# EAGLE library part MCP601 (library Pauls_parts)
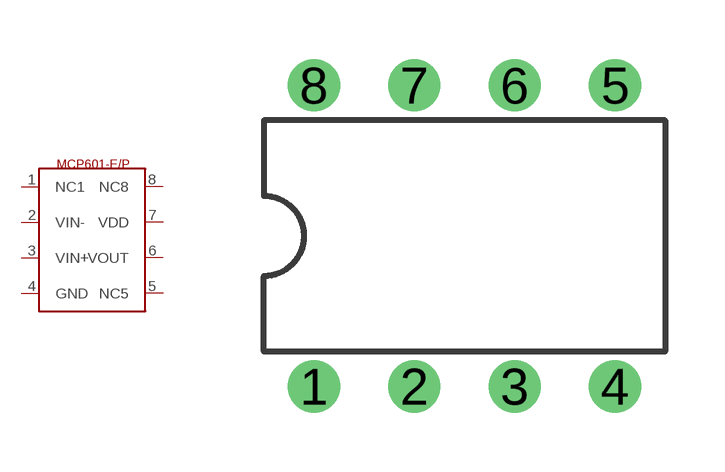
[diagram p1: symbol with the pads of PDIP8; footprint PDIP8]

Designator prefix -

## MCP601  [PDIP8]
1  NC1  nc
2  VIN-
3  VIN+
4  GND  pwr
5  NC5  nc
6  VOUT
7  VDD  pwr
8  NC8  nc

## Footprint PDIP8 (pad centres in mm)
drill 0.813 pad 1.27 round: 1 -3.81,-3.81; 2 -1.27,-3.81; 3 1.27,-3.81; 4 3.81,-3.81; 5 3.81,3.81; 6 1.27,3.81; 7 -1.27,3.81; 8 -3.81,3.81